# Altium integrated library Altium_WL-STSB (rev22b).IntLib: 1 symbol
Pins are listed as number, name and electrical type; pins without a type are passive.

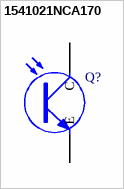
[diagram p0: symbol 1541021NCA170]

## 1541021NCA170
designator Q?  (value not drawn)
WL-STSB SMT Phototransistor Chip Black, size 1002, 700-1100nm, 1mA, 110°; Manufacturer: Wurth Elektronik; Case/Size Code: 1002; Chip Technology: Si; Collector Current Min: 0.5mA; Collector-Emitter Dark Current: 100nA; Polarity: NPN Phototransistor; Range of Spectral Bandwidth Min: 700nm; Range of Spectral Bandwidth Max: 1100nm; Wavelength of Peak Sensitivity: 940nm; ComponentLink1Description: Website Link; ComponentLink1URL: https://www.we-online.com/redexpert/article/1541021NCA170?ad; ComponentLink2Description: Datasheet Link; ComponentLink2URL: https://www.we-online.com/redexpert/spec/1541021NCA170?ad; Manufacturer Part Number: 1541021NCA170; Category: Phototransistors; Match Code: WL-STSB; Mount: Surface Mount; Operating Temperature Max: 85°C; Operating Temperature Min: -40°C; Packaging: Tape and Reel; Length: 2.4mm; Width: 0.6mm; Height: 1.4mm; Collector Current: 1mA; Viewing Angle: 110°
footprint WL-STSB_1002
pins: 1 C, 2 E